# Altium schematic symbol library 06035A101JAT2A.SchLib: 1 symbol
Pins are listed as number, name and electrical type; pins without a type are passive.

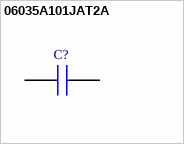
[diagram p0: symbol 06035A101JAT2A]

## 06035A101JAT2A
designator C?
0603 C0G ceramic capacitor,100pF 50V AVX 0603 Standard 100pF Ceramic Multilayer Capacitor, 50 V dc C0G Dielectric +/-5% SMD; Geometry.Height: 0.9mm; Mouser Part Number: 581-06035A101J; Mouser Price/Stock: https://www.mouser.co.uk/ProductDetail/AVX/06035A101JAT2A?qs=AGOxcRBkg6ZhFRbhUzfJ7A%3D%3D; Manufacturer_Name: AVX; Manufacturer_Part_Number: 06035A101JAT2A; Datasheet Link: https://datasheet.datasheetarchive.com/originals/distributors/Datasheets-AE/DSA3AE0000492.pdf
footprint CAPC1608X90N
pins: 1, 2